# Altium schematic symbol library ZCG2B.SchLib: 1 symbol
Pins are listed as number, name and electrical type; pins without a type are passive.

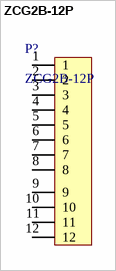
[diagram p0: symbol ZCG2B-12P]

## ZCG2B-12P
designator P?
ZCG固定式板接插座
footprint ZCG2B-12P
pins: 1, 2, 3, 4, 5, 6, 7, 8, 9, 10, 11, 12